# Altium footprint library Molex Microfit 3.0 2x2.PcbLib: 1 footprints
Each footprint in its own frame and in the unit in brackets; x right, y up, seen from the top. Pads: shape width x height; smd on the part's side, far side on the other; paste and mask are expansions set on the pad; w line width, h text height; cw(c..) or ccw(c..) is an arc to the next point about the centre after c.
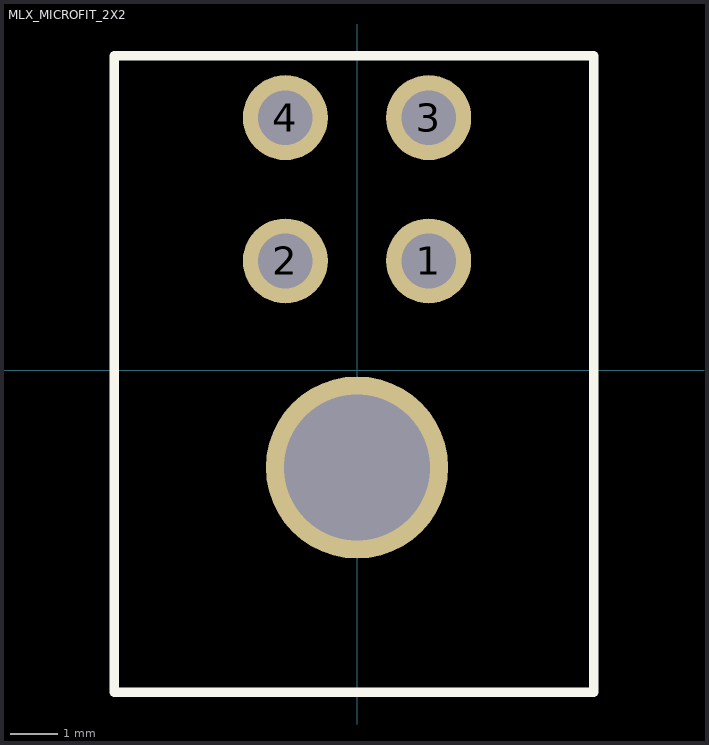
[diagram p0: the footprint, top view; thin cyan lines are the x and y axes]

## MLX_MICROFIT_2X2 [mil]
pads (5):
  round 70 hole 45: 1(59,90) 2(-59,90) 3(59,208) 4(-59,208)
  round 150 hole 120: ""(0,-80)
Top Overlay:
  lines w7.87: -200,-265 195,-265 195,258.86 -200,258.86 -200,-265
3D body "430450400.stp": height 345.35, standoff -125.12, extent -200,-265.95 199.6,215.95